# EAGLE library part DF13-10P-1.25 (library CONN, con-hirose-df13)
DF13-10P 1.25mm Pitch Miniature Crimping Connector.
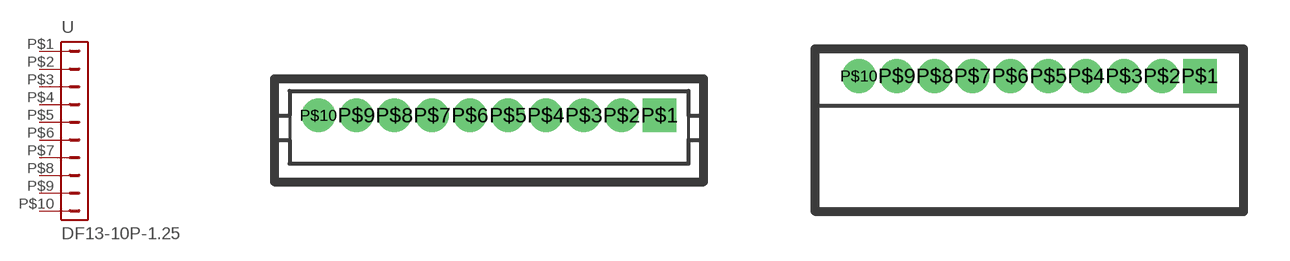
[diagram p4: symbol with the pads of DF13-10P-1.25DSA; footprints DF13-10P-1.25DSA, DF13-10P-1.25DS]

Designator prefix -

## DF13-10P-1.25DSA  [DF13-10P-1.25DSA]
P$1  1  pas
P$2  2  pas
P$3  3  pas
P$4  4  pas
P$5  5  pas
P$6  6  pas
P$7  7  pas
P$8  8  pas
P$9  9  pas
P$10  10  pas

## DF13-10P-1.25DS  [DF13-10P-1.25DS]
Pads as for DF13-10P-1.25DSA

## DF13-10P-1.25V  [DF13C-10P-1.25V]
Pads as for DF13-10P-1.25DSA

## DF13-10P-1.25H  [DF13A-10P-1.25H]
Pads as for DF13-10P-1.25DSA

## Footprint DF13-10P-1.25DSA (pad centres in mm)
Single Row Straight Pin Header (Through hole)
drill 0.6 pad 1.016 square: P$1 5.625,0
drill 0.6 pad 1.016: P$2 4.375,0; P$3 3.125,0; P$4 1.875,0; P$5 0.625,0; P$6 -0.625,0; P$7 -1.875,0; P$8 -3.125,0; P$9 -4.375,0; P$10 -5.625,0

## Footprint DF13-10P-1.25DS (pad centres in mm)
Single Row Right Angle Pin Header (Through hole)
drill 0.6 pad 1.016 square: P$1 5.625,0
drill 0.6 pad 1.016: P$2 4.375,0; P$3 3.125,0; P$4 1.875,0; P$5 0.625,0; P$6 -0.625,0; P$7 -1.875,0; P$8 -3.125,0; P$9 -4.375,0; P$10 -5.625,0

## Footprint DF13C-10P-1.25V (pad centres in mm)
Single Row Straight Pin Header (SMT)
smd 1.6 x 2.2: M$0 8.075,-1.8; M$1 -8.075,-1.8
smd 0.7 x 1.8: P$1 -5.625,0.9; P$2 -4.375,0.9; P$3 -3.125,0.9; P$4 -1.875,0.9; P$5 -0.625,0.9; P$6 0.625,0.9; P$7 1.875,0.9; P$8 3.125,0.9; P$9 4.375,0.9; P$10 5.625,0.9

## Footprint DF13A-10P-1.25H (pad centres in mm)
Single Row Straight Pin Header (SMT)
smd 1.6 x 2.2: M$0 -7.975,2.4; M$1 7.975,2.4
smd 0.7 x 1.8: P$1 -5.625,-0.9; P$2 -4.375,-0.9; P$3 -3.125,-0.9; P$4 -1.875,-0.9; P$5 -0.625,-0.9; P$6 0.625,-0.9; P$7 1.875,-0.9; P$8 3.125,-0.9; P$9 4.375,-0.9; P$10 5.625,-0.9